# EAGLE library part MGA-631P8 (library Lasser)
Avago MGA-631P8 Active Bias LNA 400 - 1500MHz 18dBm OP1dB
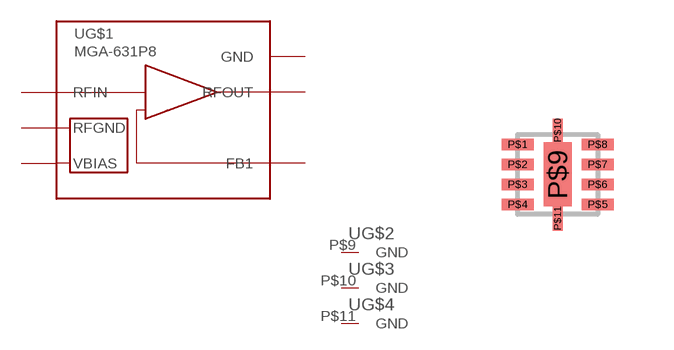
[diagram p12: symbol with the pads of TSLP2X2; footprint TSLP2X2]

Designator prefix -; gates G$1=MGA-631P8 G$2=GND G$3=GND G$4=GND

## MGA-631P8  [TSLP2X2]
P$2  G$1:RFIN
P$3  G$1:RFGND
P$4  G$1:VBIAS
P$5  G$1:FB1
P$7  G$1:RFOUT
P$8  G$1:GND
P$9  G$2:GND  pwr
P$10  G$3:GND  pwr
P$11  G$4:GND  pwr

## Footprint TSLP2X2 (pad centres in mm)
smd 0.8 x 0.28: P$1 -1,0.75; P$2 -1,0.25; P$3 -1,-0.25; P$4 -1,-0.75; P$5 1,-0.75; P$6 1,-0.25; P$7 1,0.25; P$8 1,0.75
smd 0.7 x 1.6: P$9 0,0
smd 0.25 x 0.6: P$10 0,1.099; P$11 0,-1.102